# EAGLE library part ADS1015A (library ADS1015A)
4-Kanal ADC I2C Konverter ADS1015A
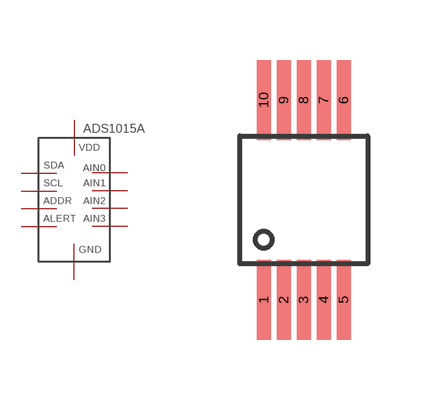
[diagram p0: symbol with the pads of VSSOP10; footprint VSSOP10]

Designator prefix -

## ADS1015A  [VSSOP10]
1  ADDR
2  ALERT
3  GND
4  AIN0
5  AIN1
6  AIN2
7  AIN3
8  VDD
9  SDA
10  SCL

## Footprint VSSOP10 (pad centres in mm)
smd 0.35 x 2: 1 -1,-2.5; 2 -0.5,-2.5; 3 0,-2.5; 4 0.5,-2.5; 5 1,-2.5; 6 1,2.5; 7 0.5,2.5; 8 0,2.5; 9 -0.5,2.5; 10 -1,2.5